# Altium footprint library SWMD_21DD_ LV_DR_Brush_V1.1.PcbLib: 21 footprints (part 1 of 2)
Each footprint in its own frame and in the unit in brackets; x right, y up, seen from the top. Pads: shape width x height; smd on the part's side, far side on the other; paste and mask are expansions set on the pad; w line width, h text height; cw(c..) or ccw(c..) is an arc to the next point about the centre after c.
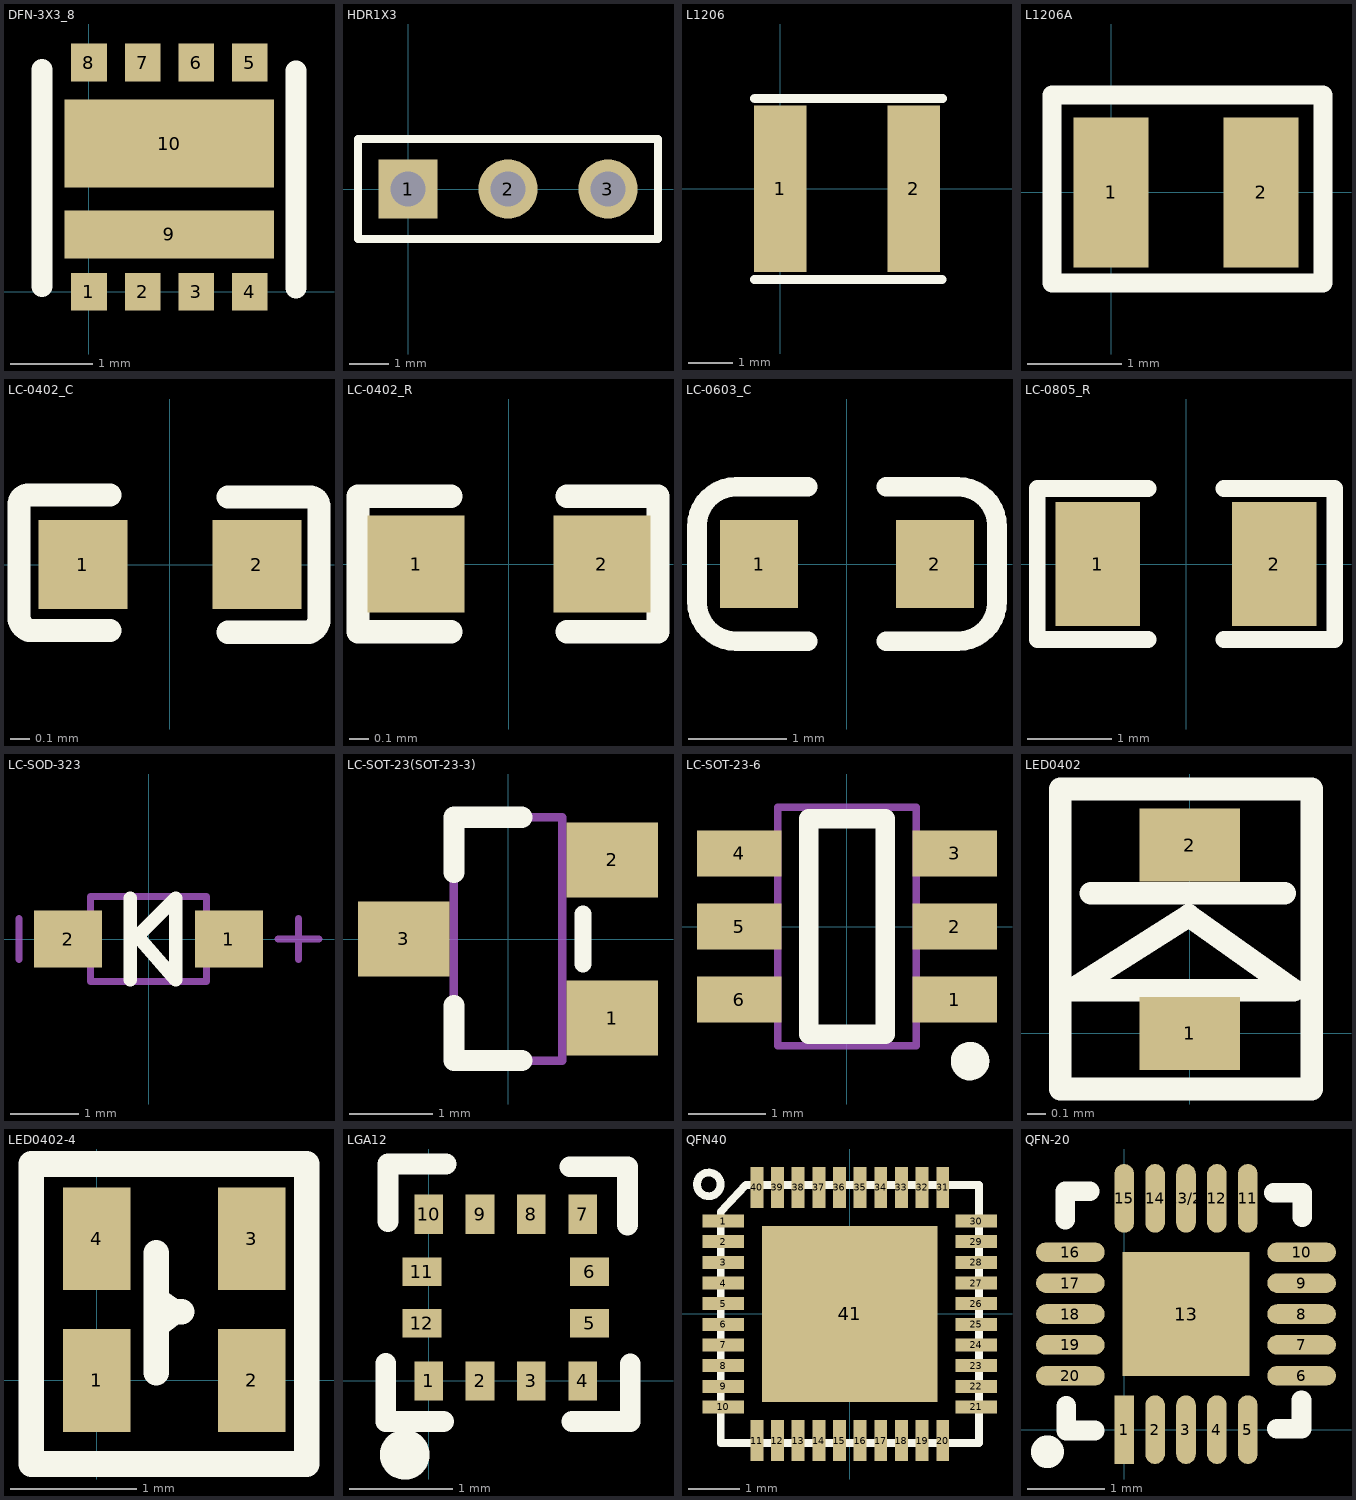
[diagram p0: the footprints below, top view; thin cyan lines are the x and y axes]

## DFN-3X3_8 [mil]
pads (10):
  rect 17x18 smd: 1(0,0) 2(25.59,0) 3(51.18,0) 4(76.77,0) 5(76.77,109.58) 6(51.18,109.58) 7(25.59,109.58) 8(0,109.58)
  rect 100x23 smd: 9(38.33,27.5)
  rect 100x42 smd: 10(38.33,70.83)
Top Overlay:
  lines w10: -22.5,2.5 -22.5,106.25 ; 98.96,1.91 98.96,105.66

## HDR1X3 [mm]
pads (3):
  rect 1.5x1.5 hole 0.9: 1(0,0)
  round 1.5 hole 0.9: 2(2.54,0) 3(5.08,0)
Top Overlay:
  lines w0.2: -1.27,-1.27 -1.27,1.27 6.35,1.27 6.35,-1.27 -1.27,-1.27

## L1206 [mil]
pads (2):
  rect 46x147 smd: 1(0,0) 2(117.92,0)
Top Overlay:
  lines w8: -22.92,-80.42 142.92,-80.42 ; -22.5,79.58 143.33,79.58

## L1206A [mm]
pads (2):
  rect 0.8x1.6 smd: 1(0,0) 2(1.6,0)
Top Overlay:
  lines w0.203: -0.63,-0.97 -0.63,1.04 2.26,1.04 2.26,-0.97 -0.63,-0.97

## LC-0402_C [mm]
pads (2):
  rect 0.46x0.46 smd paste+0.102 mask+0.146: 1(-0.45,0) 2(0.45,0)
Top Overlay:
  lines w0.12: -0.31,-0.34 -0.73,-0.34 cw(c-0.707,-0.27) -0.78,-0.26 -0.78,0.308 cw(c-0.731,0.311) -0.73,0.36 -0.31,0.36 ; 0.3,-0.35 0.72,-0.35 ccw(c0.697,-0.28) 0.77,-0.27 0.77,0.298 ccw(c0.721,0.301) 0.72,0.35 0.3,0.35

## LC-0402_R [mm]
pads (2):
  rect 0.5x0.5 smd paste+0.102 mask+0.126: 1(-0.48,0) 2(0.48,0)
Top Overlay:
  lines w0.12: -0.3,-0.35 -0.78,-0.35 -0.78,0.35 -0.3,0.35 ; 0.3,-0.35 0.77,-0.35 0.77,0.35 0.3,0.35

## LC-0603_C [mm]
pads (2):
  rect 0.8x0.9 smd: 1(-0.9,0) 2(0.9,0)
Top Overlay:
  lines w0.2: -0.4,-0.79 -1.135,-0.79 cw(c-1.135,-0.39) -1.535,-0.39 -1.535,0.39 cw(c-1.135,0.39) -1.135,0.79 -0.4,0.79 ; 0.4,-0.79 1.135,-0.79 ccw(c1.135,-0.39) 1.535,-0.39 1.535,0.39 ccw(c1.135,0.39) 1.135,0.79 0.4,0.79

## LC-0805_R [mm]
pads (2):
  rect 1x1.47 smd: 1(-1.05,0) 2(1.05,0)
Top Overlay:
  lines w0.2: -0.45,-0.9 -1.77,-0.9 -1.77,0.9 -0.45,0.9 ; 0.45,-0.9 1.77,-0.9 1.77,0.9 0.45,0.9

## LC-SOD-323 [mm]
pads (2):
  rect 1x0.83 smd: 1(1.18,0) 2(-1.18,0)
Top Overlay:
  lines w0.2: -0.27,-0.6 -0.27,0.6 ; -0.16,0.04 -0.15,0.03 0.4,-0.6 0.4,0.6 -0.16,0.04
Mechanical 15:
  lines w0.1: -1.9,-0.3 -1.9,0.3 ; 1.9,0 2.5,0 ; 2.2,-0.3 2.2,0.3 ; -0.85,-0.625 -0.85,0.625 0.85,0.625 0.85,-0.625 -0.85,-0.625

## LC-SOT-23(SOT-23-3) [mm]
pads (3):
  rect 1.1x0.9 smd: 1(1.25,-0.95) 2(1.25,0.95) 3(-1.25,0)
Top Overlay:
  lines w0.2: 0.9,-0.3 0.9,0.3
  lines w0.254: -0.65,-0.8 -0.65,-1.46 0.165,-1.46 ; 0.165,1.46 -0.65,1.46 ; -0.65,0.8 -0.65,1.46 ; -0.65,0.8 -0.65,1.46 ; -0.65,0.8 -0.65,1.46
Mechanical 15:
  lines w0.1: -0.65,-1.46 -0.65,1.46 ; -0.65,-1.46 0.65,-1.46 ; -0.65,-1.46 0.65,-1.46 ; -0.65,-1.46 -0.65,1.46 ; -0.65,-1.46 0.65,-1.46 ; -0.65,-1.46 -0.65,1.46 ; -0.65,1.46 0.65,1.46 ; -0.65,1.46 0.65,1.46 ; -0.65,1.46 0.65,1.46 ; 0.65,-1.46 0.65,1.46 ; 0.65,-1.46 0.65,1.46 ; 0.65,-1.46 0.65,1.46

## LC-SOT-23-6 [mm]
pads (6):
  rect 1.1x0.6 smd: 1(1.4,-0.95) 2(1.4,0) 3(1.4,0.95) 4(-1.4,0.95) 5(-1.4,0) 6(-1.4,-0.95)
Top Overlay:
  circle w0.25: c1.6,-1.75 r0.125
  lines w0.254: -0.5,-1.4 0.5,-1.4 0.5,1.4 -0.5,1.4 -0.5,-1.4
Mechanical 15:
  lines w0.1: -0.9,-1.55 0.9,-1.55 0.9,1.55 -0.9,1.55 -0.9,-1.55

## LED0402 [mil]
pads (2):
  rect 22x16 smd: 1(0,0) 2(0,41.25)
Top Overlay:
  lines w5: -21.67,30.71 20.87,30.71 ; -28.35,-12.2 26.77,-12.2 26.77,53.54 -28.35,53.54 -28.35,-12.2 ; -25.98,9.45 -0.2,25.79 22.83,9.45 -25.98,9.45

## LED0402-4 [mil]
pads (4):
  rect 21x32 smd: 1(0,0) 2(48.33,0) 3(48.33,44.17) 4(0,44.17)
Top Overlay:
  lines w5: 17.5,14.37 26.46,21.46 20,26.04
  lines w8: 18.54,2.5 18.54,39.79 ; 20.42,20.83 20.42,21.46 26.46,21.46 ; -20.42,-26.04 -20.42,67.5 65.42,67.5 65.42,-26.04 -20.42,-26.04

## LGA12 [mil]
pads (12):
  rect 11x15 smd: 1(0,0) 2(19.68,0) 3(39.37,0) 4(59.05,0) 7(59.05,63.85) 8(39.37,63.85) 9(19.68,63.85) 10(0,63.85)
  rect 15x11 smd: 5(61.67,22.08) 6(61.67,41.77) 11(-2.61,41.77) 12(-2.61,22.08)
Top Overlay:
  circle w12: c-9.17,-28.33 r3.54
  lines w8: -16.46,6.67 -16.46,-15.62 5.62,-15.62 ; -15.62,61.04 -15.62,83.12 6.67,83.12 ; 54.17,82.08 76.25,82.08 76.25,59.79 ; 55,-15.62 77.29,-15.62 77.29,6.46

## QFN40 [mm]
pads (41):
  rect 0.8x0.25 smd: 1(-2.45,1.8) 2(-2.45,1.4) 3(-2.45,1) 4(-2.45,0.6) 5(-2.45,0.2) 6(-2.45,-0.2) 7(-2.45,-0.6) 8(-2.45,-1) 9(-2.45,-1.4) 10(-2.45,-1.8) 21(2.45,-1.8) 22(2.45,-1.4) 23(2.45,-1) 24(2.45,-0.6) 25(2.45,-0.2) 26(2.45,0.2) 27(2.45,0.6) 28(2.45,1) 29(2.45,1.4) 30(2.45,1.8)
  rect 0.25x0.8 smd: 11(-1.8,-2.45) 12(-1.4,-2.45) 13(-1,-2.45) 14(-0.6,-2.45) 15(-0.2,-2.45) 16(0.2,-2.45) 17(0.6,-2.45) 18(1,-2.45) 19(1.4,-2.45) 20(1.8,-2.45) 31(1.8,2.45) 32(1.4,2.45) 33(1,2.45) 34(0.6,2.45) 35(0.2,2.45) 36(-0.2,2.45) 37(-0.6,2.45) 38(-1,2.45) 39(-1.4,2.45) 40(-1.8,2.45)
  rect 3.4x3.4 smd: 41(0,0)
Top Overlay:
  circle w0.15: c-2.73,2.51 r0.228
  lines w0.15: -2.5,-2.5 -2.5,1.98 -2.02,2.49 -2.01,2.5 2.5,2.5 2.5,-2.5 -2.5,-2.5

## QFN-20 [mil]
pads (21):
  rect 10x35 smd: 1(0,0)
  oval 10x35 smd: 2(15.75,0) 3(31.5,0) 4(47.24,0) 5(62.99,0) 11(62.99,117.99) 12(47.24,117.99) 13/2(31.5,117.99) 14(15.75,117.99) 15(0,117.99)
  oval 35x10 smd: 6(90.49,27.5) 7(90.49,43.25) 8(90.49,59) 9(90.49,74.74) 10(90.49,90.49) 16(-27.5,90.49) 17(-27.5,74.74) 18(-27.5,59) 19(-27.5,43.25) 20(-27.5,27.5)
  rect 65x63 smd: 13(31.5,59)
Top Overlay:
  circle w15: c-39.17,-11.25 r0.83
  lines w10: -30,107.08 -30,121.67 -17.5,121.67 ; -29.58,12.08 -29.58,-0.42 -15,-0.42 ; 76.25,120.83 90.83,120.83 90.83,108.33 ; 77.92,0.42 90.42,0.42 90.42,15